# Altium schematic symbol library display.SchLib: 1 symbol
Pins are listed as number, name and electrical type; pins without a type are passive.

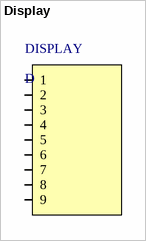
[diagram p0: symbol Display]

## Display
designator DISPLAY, comment D
Display
footprint display
pins: 1, 2, 3, 4, 5, 6, 7, 8, 9